# Altium footprint library My Library.PcbLib: 161 footprints (part 3 of 11)
Each footprint in its own frame and in the unit in brackets; x right, y up, seen from the top. Pads: shape width x height; smd on the part's side, far side on the other; paste and mask are expansions set on the pad; w line width, h text height; cw(c..) or ccw(c..) is an arc to the next point about the centre after c.
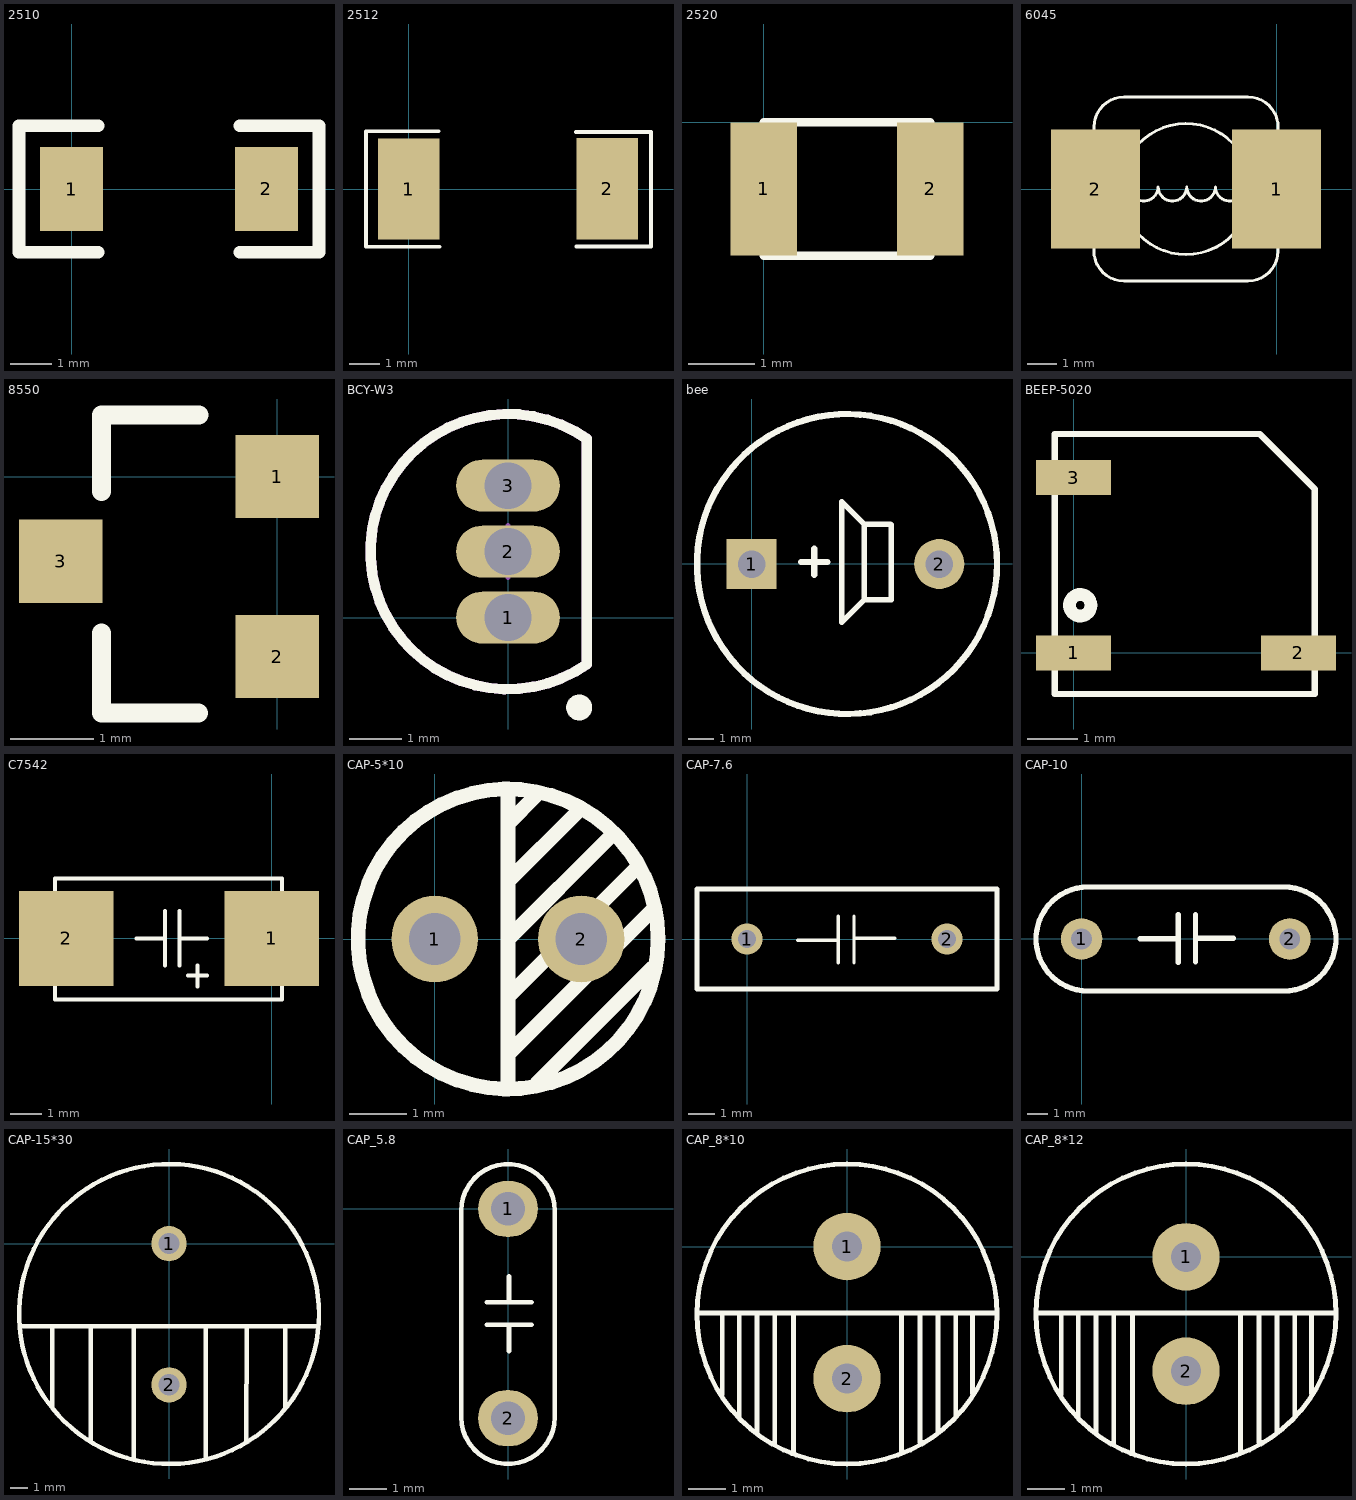
[diagram p2: the footprints below, top view; thin cyan lines are the x and y axes]

## 2510 [mil]
pads (2):
  rect 60x80 smd: 1(0,0) 2(185,0)
Top Overlay:
  lines w12: 25,-60 -50,-60 -50,60 25,60 ; 160,-60 235,-60 235,60 160,60

## 2512 [mm]
height 1
pads (2):
  rect 2x3.3 smd: 1(0,0) 2(6.46,0.01)
Top Overlay:
  lines w0.127: -1.392,-1.879 0.998,-1.879 ; -1.392,-1.854 -1.392,1.806 -1.392,1.881 0.978,1.881 ; 5.448,1.856 7.878,1.856 7.878,-1.874 5.458,-1.874
3D body: height 1, standoff 0, extent 0.025,-1.5 6.45,1.5

## 2520 [mm]
height 1.2
pads (2):
  rect 1x2 smd: 1(0,-1) 2(2.5,-1)
Top Overlay:
  lines w0.127: 0,-2 0,0 2.5,0 2.5,-2 0,-2

## 6045 [mm]
height 6
pads (2):
  rect 3x4 smd: 1(0,0) 2(-6.096,0)
Top Overlay:
  lines w0.1: -6.149,2.083 -6.149,-2.083 ccw(c-5.133,-2.083) -5.133,-3.099 -0.965,-3.099 ccw(c-0.965,-2.083) 0.051,-2.083 0.051,2.083 ; -6.147,2.085 cw(c-5.131,2.085) -5.131,3.101 -0.963,3.101 cw(c-0.963,2.085) 0.053,2.085 ; -4.953,0.076 ccw(c-4.47,0.076) -3.988,0.076 ccw(c-3.505,0.076) -3.023,0.076 ccw(c-2.54,0.076) -2.057,0.076 ccw(c-1.575,0.076) -1.092,0.076 ; -1.63,-1.688 cw(c-3.048,0) -1.607,-1.668

## 8550 [mm]
pads (3):
  rect 1x1 smd: 1(0,0) 2(0,-2.159) 3(-2.598,-1.016)
Top Overlay:
  lines w0.229: -2.108,-1.88 -2.108,-2.834 -0.945,-2.834 ; -2.108,-0.178 -2.108,0.737 -0.94,0.737
3D body: height 1, standoff 0, extent -2.125,-2.825 -0.5,0.75

## BCY-W3 [mm]
height 5
pads (3):
  oval 2x1 hole 0.9: 1(0,0) 2(0,1.27) 3(0,2.54)
Top Overlay:
  circle w0.25: c1.371,-1.733 r0.125
  lines w0.2: 1.52,-0.901 cw(c0,1.27) 1.52,3.441 1.52,-0.901
Mechanical 13:
  lines w0.2: 1.52,-0.901 cw(c0,1.27) 1.52,3.441 1.52,-0.901
Mechanical 15:
  lines w0.1: -0.5,1.27 0.5,1.27 ; 0,0.77 0,1.77
3D body: height 5.33, standoff 0, extent -2.659,-1.389 1.523,3.929

## bee [mm]
pads (2):
  rect 2x2 hole 1.1: 1(0.001,-0.017)
  round 2 hole 1.1: 2(7.501,-0.017)
Top Overlay:
  circle w0.254: c3.811,-0.017 r6
  lines w0.22: 4.5,-1.45 4.5,1.575 ; 4.5,-1.45 3.6,-2.35 3.6,2.475 4.5,1.575 ; 4.5,-1.45 5.575,-1.45 ; 4.5,1.575 5.55,1.575 5.575,1.55 5.575,-1.45 ; 5.575,-1.45 5.575,-1.45
  lines w0.254: 1.975,0.065 3.025,0.065 ; 2.5,-0.45 2.5,0.6

## BEEP-5020 [mm]
height 2
pads (3):
  rect 1.5x0.7 smd: 1(0,0) 2(4.5,0) 3(0,3.5)
Top Overlay:
  circle w0.254: c0.135,0.95 r0.215
  lines w0.127: -0.375,-0.825 4.825,-0.825 4.825,3.275 3.725,4.375 -0.375,4.375 -0.375,-0.825

## C7542 [mm]
height 2
pads (2):
  rect 3x3 smd: 1(0,0) 2(-6.5,0)
Top Overlay:
  lines w0.127: -6.86,1.878 -6.86,-1.932 0.33,-1.932 ; -6.86,1.898 0.33,1.898 0.33,-1.932 ; -4.275,0 -3.4,0 ; -3.375,-0.85 -3.375,0.875 ; -2.925,-0.85 -2.925,0.875 ; -2.925,0 -2.05,0 ; -2.65,-1.175 -2.05,-1.175 ; -2.35,-1.525 -2.35,-0.85 ; -0.756,-1.932 -0.751,-1.932 ; 0.33,-1.915 0.33,-1.932 ; 0.33,0.724 0.33,0.837
3D body: height 3, standoff 0, extent -6.85,-1.925 0.325,1.9

## CAP-5*10 [mm]
height 10
pads (2):
  round 1.5 hole 0.9: 1(0,0) 2(2.54,0)
Top Overlay:
  circle w0.254: c1.27,0 r2.6
  lines w0.254: 1.27,-2.6 1.27,2.6 ; 1.27,-2 3.77,0.5 ; 1.27,-1 3.47,1.2 ; 1.27,0 3.07,1.8 ; 1.27,1 2.47,2.2 ; 1.27,2 1.77,2.5 ; 1.77,-2.5 3.27,-1 3.77,-0.5
3D body: height 10, standoff 0, extent -1.2,-2.5 3.78,2.49

## CAP-7.6 [mm] "Radial Cap, Thru-Hole; 2 Leads; 0.3 in Pin Spacing"
height 6
pads (2):
  round 1.2 hole 0.7: 1(0,0) 2(7.62,0)
Top Overlay:
  lines w0.127: 1.925,-0.05 3.475,-0.05 ; 3.475,-0.9 3.475,0.875 ; 4.075,-0.9 4.075,0.875 ; 4.075,0.025 5.625,0.025
  lines w0.2: -1.905,-1.905 -1.905,1.905 9.525,1.905 9.525,-1.905 -1.905,-1.905

## CAP-10 [mm]
height 10
pads (2):
  round 2 hole 1: 1(0,0) 2(10,0)
Top Overlay:
  lines w0.254: 2.825,0.006 4.622,0.006 ; 4.647,-1.119 4.647,1.181 ; 5.472,-1.094 5.472,1.181 ; 5.472,0.031 7.3,0.031 ; 9.7,-2.5 0.31,-2.5 cw(c0.31,0) 0.31,2.5 9.7,2.5 ; 9.725,-2.5 ccw(c9.725,0) 9.725,2.5

## CAP-15*30 [mm]
height 30
pads (2):
  round 2 hole 1.2: 1(0,0) 2(0,-8.001)
Top Overlay:
  circle w0.254: c0,-3.988 r8.5
  lines w0.254: -8.425,-4.676 8.4,-4.676 ; -6.607,-9.248 -6.607,-4.676 ; -4.442,-11.23 -4.442,-4.7 ; -2.002,-12.175 -2.002,-4.701 ; 2.096,-12.2 2.096,-4.726 ; 4.386,-11.23 4.4,-4.675 ; 6.601,-9.248 6.601,-4.676
3D body: height 30, standoff 0, extent -8.433,-12.491 8.5,4.475

## CAP_5.8 [mm]
height 0.8
pads (2):
  oval 1.6x1.5 hole 0.9: 1(0,0) 2(0,-5.6)
Top Overlay:
  lines w0.127: -1.25,-5.6 -1.25,-0.075 ; -1.25,-5.575 ccw(c0,-5.575) 1.25,-5.575 1.25,-0.025 ; -1.25,-0.05 cw(c0,-0.05) 1.25,-0.05 ; -0.57,-3.1 0.63,-3.1 ; -0.57,-2.5 0.63,-2.5 ; 0.03,-3.8 0.03,-3.125 ; 0.03,-2.475 0.03,-1.8

## CAP_8*10 [mm]
height 10
pads (2):
  round 1.8 hole 0.8: 1(0,0) 2(0,-3.523)
Top Overlay:
  circle w0.127: c0,-1.799 r4
  lines w0.127: -3.975,-1.774 3.95,-1.774 ; -3.375,-3.875 -3.325,-3.825 ; -3.325,-3.95 -3.325,-1.774 ; -2.875,-4.525 -2.875,-1.799 ; -2.4,-4.95 -2.4,-1.799 ; -2,-5.25 -1.925,-5.25 -1.925,-1.799 ; -1.475,-5.525 -1.425,-5.525 -1.425,-1.799 ; 1.45,-1.774 1.45,-5.5 1.5,-5.5 ; 1.95,-1.774 1.95,-5.225 2.025,-5.225 ; 2.425,-4.925 2.425,-1.774 ; 2.9,-4.5 2.9,-1.774 ; 3.35,-3.925 3.35,-1.849 ; 3.35,-3.85 3.4,-3.85
3D body: height 20, standoff 0, extent -3.95,-5.825 4.018,2.159

## CAP_8*12 [mm]
height 12
pads (2):
  round 1.8 hole 0.8: 1(0,0) 2(0,-3.048)
Top Overlay:
  circle w0.127: c0,-1.524 r4
  lines w0.127: -3.975,-1.499 3.95,-1.499 ; -3.375,-3.6 -3.325,-3.55 ; -3.325,-3.675 -3.325,-1.499 ; -2.875,-4.25 -2.875,-1.524 ; -2.4,-4.675 -2.4,-1.524 ; -2,-4.975 -1.925,-4.975 -1.925,-1.524 ; -1.475,-5.25 -1.425,-5.25 -1.425,-1.524 ; 1.45,-1.499 1.45,-5.225 1.5,-5.225 ; 1.95,-1.499 1.95,-4.95 2.025,-4.95 ; 2.425,-4.65 2.425,-1.499 ; 2.9,-4.225 2.9,-1.499 ; 3.35,-3.65 3.35,-1.574 ; 3.35,-3.575 3.4,-3.575
3D body: height 12, standoff 0, extent -4,-5.525 3.968,2.459